# Altium footprint library SOT-23190P300X140-3L.PcbLib: 1 footprints
Each footprint in its own frame and in the unit in brackets; x right, y up, seen from the top. Pads: shape width x height; smd on the part's side, far side on the other; paste and mask are expansions set on the pad; w line width, h text height; cw(c..) or ccw(c..) is an arc to the next point about the centre after c.
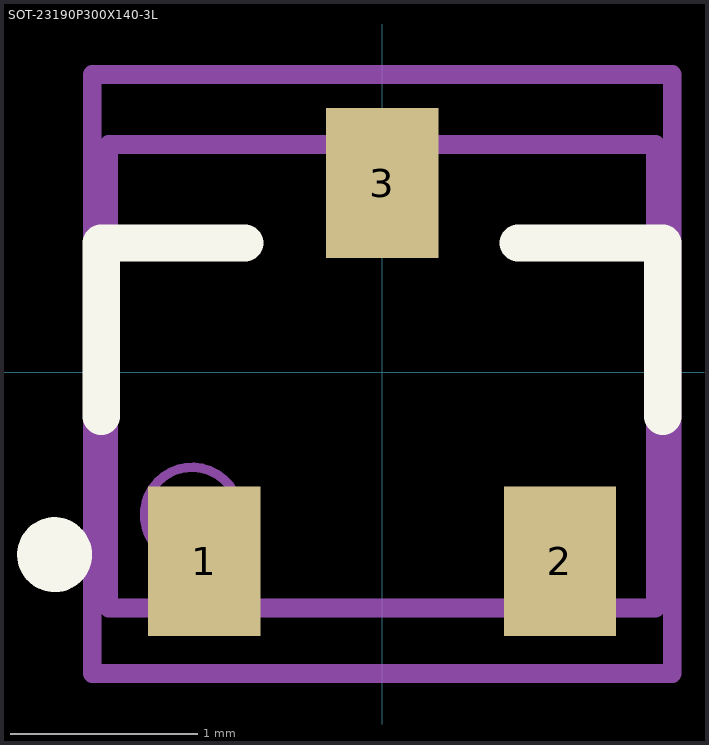
[diagram p0: the footprint, top view; thin cyan lines are the x and y axes]

## SOT-23190P300X140-3L [mm] "Pitch 1.9mm Body 3x1.4mm High1.15mm"
height 1.15
pads (3):
  rect 0.6x0.8 smd: 1(-0.95,-1.01) 2(0.95,-1.01) 3(0,1.01)
Top Overlay:
  lines w0.2: -1.719,-0.88 ccw(c-1.75,-0.975) -1.707,-0.885 ; -1.5,-0.235 -1.5,0.69 -0.735,0.69 ; 0.727,0.69 1.5,0.69 1.5,-0.235
Mechanical 13:
  circle w0.05: c-1.016,-0.762 r0.254
  lines w0.1: -1.46,-1.26 1.46,-1.26 1.46,1.216 -1.46,1.216 -1.46,-1.26
Mechanical 15:
  lines w0.1: -1.549,-1.61 1.549,-1.61 1.549,1.59 -1.549,1.59 -1.549,-1.61
3D body: height 1.03, standoff 0.01, extent -1.46,-1.26 1.46,1.216